# Altium footprint library Lund_Footprints.PcbLib: 25 footprints (part 2 of 2)
Each footprint in its own frame and in the unit in brackets; x right, y up, seen from the top. Pads: shape width x height; smd on the part's side, far side on the other; paste and mask are expansions set on the pad; w line width, h text height; cw(c..) or ccw(c..) is an arc to the next point about the centre after c.
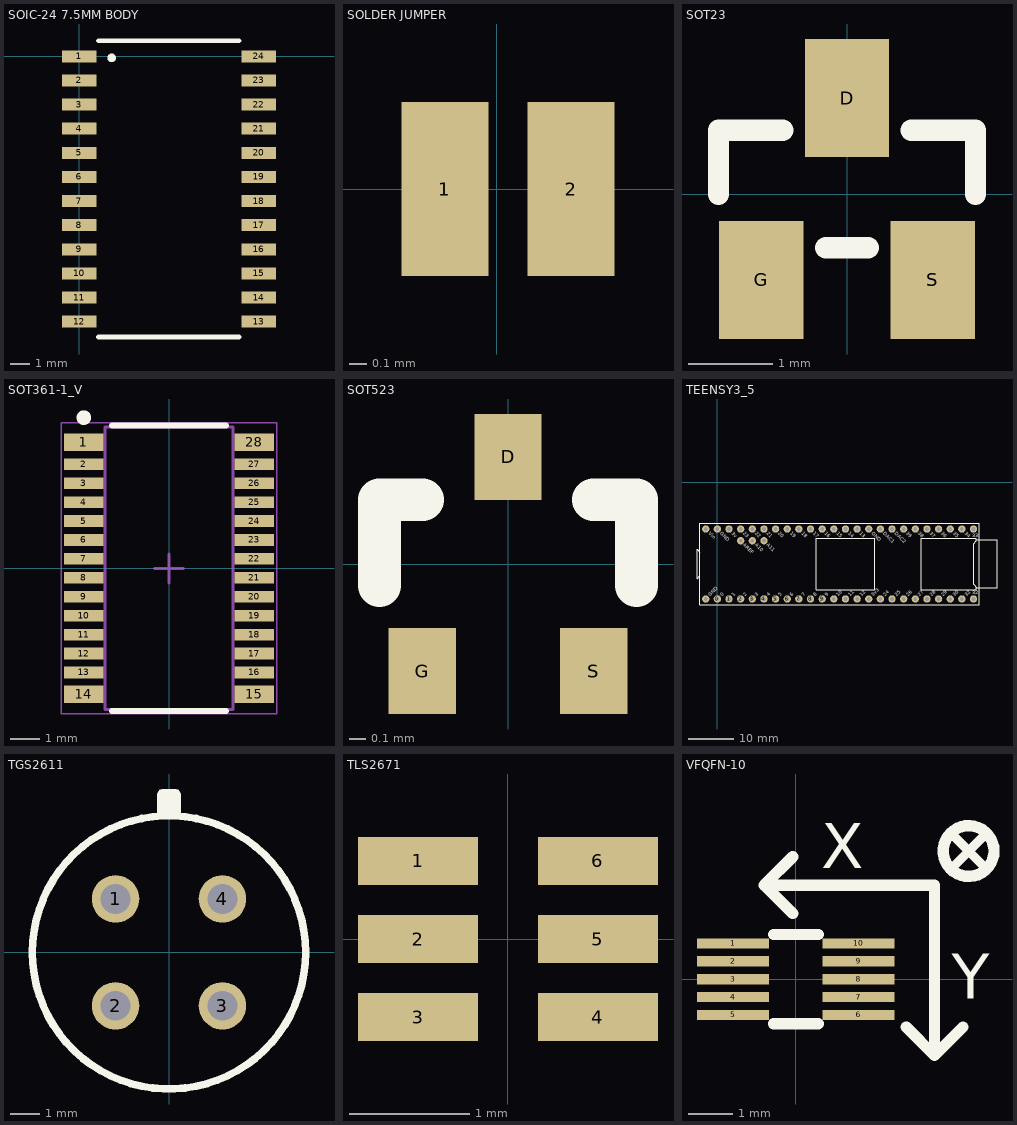
[diagram p1: the footprints below, top view; thin cyan lines are the x and y axes]

## SOIC-24 7.5MM BODY [mm] "SOIC-24 7.5MM BODY"
pads (24):
  rect 1.83x0.63 smd: 1(0,0) 2(0,-1.27) 3(0,-2.54) 4(0,-3.81) 5(0,-5.08) 6(0,-6.35) 7(0,-7.62) 8(0,-8.89) 9(0,-10.16) 10(0,-11.43) 11(0,-12.7) 12(0,-13.97) 13(9.46,-13.97) 14(9.46,-12.7) 15(9.46,-11.43) 16(9.46,-10.16) 17(9.46,-8.89) 18(9.46,-7.62) 19(9.46,-6.35) 20(9.46,-5.08) 21(9.46,-3.81) 22(9.46,-2.54) 23(9.46,-1.27) 24(9.46,0)
Top Overlay:
  circle w0.254: c1.71,-0.08 r0.1
  lines w0.254: 1.01,-14.78 8.41,-14.78 ; 1.01,0.82 8.41,0.82
3D body: height 2.6, standoff 0, extent 0.96,-14.68 8.46,0.72

## SOLDER JUMPER [mm] "Solderable Jumper"
pads (2):
  rect 0.5x1 smd: 1(-0.3,0) 2(0.427,0)
Top Solder:
  region: 0.025,-0.6 0.1,-0.6 0.1,0.6 0.025,0.6

## SOT23 [mm] "SOT-23 footprint"
pads (3):
  rect 1x1.4 smd: D(0,1.143) G(-1.016,-1.016) S(1.016,-1.016)
Top Overlay:
  lines w0.254: -1.524,0 -1.524,0.762 -0.762,0.762 ; -0.254,-0.635 0.254,-0.635 ; 0.762,0.762 1.524,0.762 1.524,0

## SOT361-1_V [mm] "SOP, 28-Leads, Body 9.7x4.4mm, Pitch 0.65mm, NXP Recommended"
height 1.1
pads (28):
  rect 1.35x0.6 smd: 1(-2.925,4.325) 14(-2.925,-4.325) 15(2.925,-4.325) 28(2.925,4.325)
  rect 1.35x0.4 smd: 2(-2.925,3.575) 3(-2.925,2.925) 4(-2.925,2.275) 5(-2.925,1.625) 6(-2.925,0.975) 7(-2.925,0.325) 8(-2.925,-0.325) 9(-2.925,-0.975) 10(-2.925,-1.625) 11(-2.925,-2.275) 12(-2.925,-2.925) 13(-2.925,-3.575) 16(2.925,-3.575) 17(2.925,-2.925) 18(2.925,-2.275) 19(2.925,-1.625) 20(2.925,-0.975) 21(2.925,-0.325) 22(2.925,0.325) 23(2.925,0.975) 24(2.925,1.625) 25(2.925,2.275) 26(2.925,2.925) 27(2.925,3.575)
Top Overlay:
  circle w0.25: c-2.925,5.175 r0.125
  lines w0.2: -1.96,-4.9 1.96,-4.9 ; -1.96,4.9 1.96,4.9
Mechanical 13:
  lines w0.1: -2.2,-4.85 -2.2,4.85 2.2,4.85 2.2,-4.85 -2.2,-4.85
Mechanical 15:
  lines w0.05: -3.7,-5 -3.7,5 3.7,5 3.7,-5 -3.7,-5
  lines w0.1: -0.5,0 0.5,0 ; 0,-0.5 0,0.5
3D body: height 1.1, standoff 0.05, extent -2.2,-4.85 2.2,4.85

## SOT523 [mm] "SOT523 package"
pads (3):
  rect 0.4x0.51 smd: D(0,0.635) G(-0.508,-0.635) S(0.508,-0.635)
Top Overlay:
  lines w0.254: -0.762,-0.127 -0.762,0.381 -0.508,0.381 ; 0.508,0.381 0.762,0.381 0.762,-0.127

## TEENSY3_5 [mm] "Teensy 3.5 board (w/ SD card) mating pattern"
pads (51):
  round 1.6 hole 0.8: 0(0,-25.4) 1(2.54,-25.4) 2(5.08,-25.4) 3(7.62,-25.4) 3v3(2.54,-10.16) 3v3(33.02,-25.4) 4(10.16,-25.4) 5(12.7,-25.4) 6(15.24,-25.4) 7(17.78,-25.4) 8(20.32,-25.4) 9(22.86,-25.4) 10(25.4,-25.4) 11(27.94,-25.4) 12(30.48,-25.4) 13(30.48,-10.16) 14(27.94,-10.16) 15(25.4,-10.16) 16(22.86,-10.16) 17(20.32,-10.16) 18(17.78,-10.16) 19(15.24,-10.16) 20(12.7,-10.16) 21(10.16,-10.16) 22(7.62,-10.16) 23(5.08,-10.16) 24(35.56,-25.4) 25(38.1,-25.4) 26(40.64,-25.4) 27(43.18,-25.4) 28(45.72,-25.4) 29(48.26,-25.4) 30(50.8,-25.4) 31(53.34,-25.4) 32(55.88,-25.4) 33(55.88,-10.16) 34(53.34,-10.16) 35(50.8,-10.16) 36(48.26,-10.16) 37(45.72,-10.16) 38(43.18,-10.16) 39(40.64,-10.16) A10(7.62,-12.7) A11(10.16,-12.7) AGND(0,-10.16) AREF(5.08,-12.7) DAC0(38.1,-10.16) DAC1(35.56,-10.16) GND(-2.54,-25.4) GND(33.02,-10.16) VIN(-2.54,-10.16)
Top Overlay:
  lines w0.1: 56.5,-23 61,-23 61,-12.5 56.5,-12.5
  lines w0.125: -3.81,-20.32 -4.445,-20.955 -4.445,-14.605 -3.81,-15.24 ; -3.81,-26.67 -3.81,-8.89 57.15,-8.89 57.15,-26.67 -3.81,-26.67 ; 21.59,-23.368 21.59,-12.192 34.29,-12.192 34.29,-23.368 21.59,-23.368 ; 44.45,-23.368 44.45,-12.192 56.515,-12.192 56.515,-12.7 55.88,-13.335 55.88,-22.225 56.515,-22.86 56.515,-23.368 44.45,-23.368
  text "GND" at -1.524,-24.892 h0.76
  text "0" at 1.016,-24.892 h0.76
  text "1" at 3.556,-24.892 h0.76
  text "2" at 6.096,-24.892 h0.76
  text "3" at 8.636,-24.892 h0.76
  text "4" at 11.176,-24.892 h0.76
  text "5" at 13.716,-24.892 h0.76
  text "6" at 16.256,-24.892 h0.76
  text "7" at 18.796,-24.892 h0.76
  text "8" at 21.336,-24.892 h0.76
  text "9" at 23.876,-24.892 h0.76
  text "10" at 26.416,-24.892 h0.76
  text "11" at 28.956,-24.892 h0.76
  text "12" at 31.496,-24.892 h0.76
  text "3v3" at 34.036,-24.892 h0.76
  text "24" at 36.576,-24.892 h0.76
  text "25" at 39.116,-24.892 h0.76
  text "26" at 41.656,-24.892 h0.76
  text "27" at 44.196,-24.892 h0.76
  text "28" at 46.736,-24.892 h0.76
  text "29" at 49.276,-24.892 h0.76
  text "30" at 51.816,-24.892 h0.76
  text "32" at 54.356,-24.892 h0.76
  text "32" at 55.626,-24.384 h0.76
  text "33" at 55.626,-11.938 h0.76
  text "34" at 53.848,-11.176 h0.76
  text "35" at 51.308,-11.176 h0.76
  text "36" at 48.768,-11.176 h0.76
  text "37" at 46.228,-11.176 h0.76
  text "38" at 43.688,-11.176 h0.76
  text "39" at 41.148,-11.176 h0.76
  text "DAC2" at 38.608,-11.176 h0.76
  text "DAC1" at 36.068,-11.176 h0.76
  text "GND" at 33.528,-11.176 h0.76
  text "13" at 30.988,-11.176 h0.76
  text "14" at 28.448,-11.176 h0.76
  text "15" at 25.908,-11.176 h0.76
  text "16" at 23.368,-11.176 h0.76
  text "17" at 20.828,-11.176 h0.76
  text "18" at 18.288,-11.176 h0.76
  text "19" at 15.748,-11.176 h0.76
  text "20" at 13.208,-11.176 h0.76
  text "3v" at 3.048,-11.176 h0.76
  text "GND" at 0.508,-11.176 h0.76
  text "Vin" at -2.032,-11.176 h0.76
  text "A11" at 10.668,-13.716 h0.76
  text "A10" at 8.128,-13.716 h0.76
  text "AREF" at 5.588,-13.716 h0.76
  text "21" at 10.668,-11.176 h0.76
  text "22" at 8.128,-11.176 h0.76
  text "23" at 5.588,-11.176 h0.76

## TGS2611 [mm] "METHANE GAS SENSOR"
pads (4):
  round 1.6 hole 1: 1(-1.8,1.8) 2(-1.8,-1.8) 3(1.8,-1.8) 4(1.8,1.8)
Top Overlay:
  circle w0.254: c0,0 r4.6
  region: -0.4,4.6 0.4,4.6 0.4,5.3 0.4,5.34 0.37,5.413 0.313,5.47 0.24,5.5 0.2,5.5 -0.2,5.5 -0.24,5.5 -0.313,5.47 -0.37,5.413 -0.4,5.34 -0.4,5.3

## TLS2671 [mm] "IR AND VISIBLE PROX SENSOR"
pads (6):
  rect 1x0.4 smd: 1(-0.75,0.65) 2(-0.75,0) 3(-0.75,-0.65) 4(0.75,-0.65) 5(0.75,0) 6(0.75,0.65)
3D body: height 0.25, standoff 0, extent 0.25,0 0.25,0
3D body: height 0.65, standoff 0, extent -1,-1 1,1

## VFQFN-10 [mil] ".4 mm pitch 10 pin QFN"
pads (10):
  rect 63.62x9 smd: 1(-55.24,31.5) 2(-55.24,15.75) 3(-55.24,0) 4(-55.24,-15.75) 5(-55.24,-31.5) 6(55.24,-31.5) 7(55.24,-15.75) 8(55.24,0) 9(55.24,15.75) 10(55.24,31.5)
Top Overlay:
  circle w10: c152.24,112.87 r22.36
  lines w8: 137.24,97.87 167.24,127.87 ; 137.24,127.87 167.24,97.87
  lines w10: -22.76,82.87 122.24,82.87 122.24,-67.13 ; -19.69,-39.37 19.68,-39.37 ; -19.69,39.37 19.68,39.37 ; -2.76,57.87 -27.76,82.87 -2.76,107.87 ; 97.24,-42.13 122.24,-67.13 ; 147.24,-42.13 122.24,-67.13
  text "Y" at 137.24,-17.13 h40
  text "X" at 22.24,97.87 h40